# Altium footprint library RESC508X254X88L147N.PcbLib: 1 footprints
Each footprint in its own frame and in the unit in brackets; x right, y up, seen from the top. Pads: shape width x height; smd on the part's side, far side on the other; paste and mask are expansions set on the pad; w line width, h text height; cw(c..) or ccw(c..) is an arc to the next point about the centre after c.
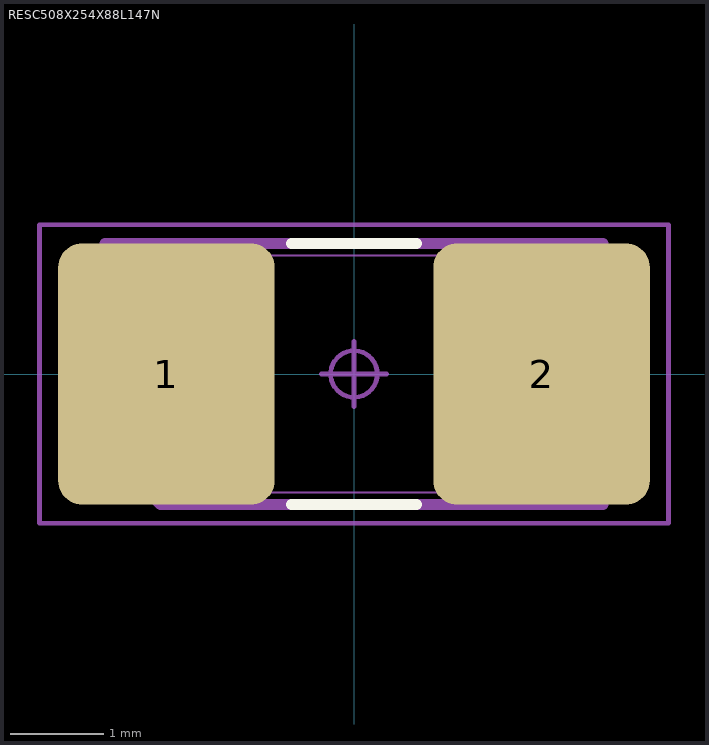
[diagram p0: the footprint, top view; thin cyan lines are the x and y axes]

## RESC508X254X88L147N [mm] "Resistor, Chip; 5.08 mm L X 2.54 mm W X 0.889 mm H body"
height 0.889
pads (2):
  rrect22% 2.32x2.8 smd: 1(-2.01,0) 2(2.01,0)
Top Overlay:
  lines w0.12: -0.67,-1.4 0.67,-1.4 ; -0.67,1.4 0.67,1.4
Mechanical 3:
  lines w0.12: -2.67,-0.805 -2.075,-1.4 2.67,-1.4 2.67,1.4 -2.67,1.4 -2.67,-0.805
Mechanical 5:
  lines w0.025: -2.54,-1.27 -1.07,-1.27 -1.07,1.27 -2.54,1.27 ; -2.54,-1.27 -2.54,1.27 ; -2.54,-1.27 -2.54,1.27 ; -2.54,-1.27 2.54,-1.27 ; -2.54,1.27 2.54,1.27 ; 2.54,-1.27 2.54,1.27 ; 2.54,-1.27 1.07,-1.27 1.07,1.27 2.54,1.27 ; 2.54,-1.27 2.54,1.27
Mechanical 7:
  circle w0.05: c0,0 r0.25
  lines w0.05: -0.35,0 0.35,0 ; 0,-0.35 0,0.35 ; -3.37,-1.6 -3.37,1.6 3.37,1.6 3.37,-1.6 -3.37,-1.6
Mechanical 9:
  text "'.Designator'" at -5.715,-0.381 h1
3D body "RESC508X254X88L147.STEP": height 0.89, standoff 0, extent -2.54,-1.27 2.54,1.27
3D body: height 2, standoff 0.05, extent -3.375,-1.6 3.375,1.6
3D body: height 1.04, standoff 0, extent -3.37,-1.6 3.37,1.6